# Altium schematic symbol library ADL5545ARKZ-R7.SchLib: 2 symbols
Pins are listed as number, name and electrical type; pins without a type are passive.

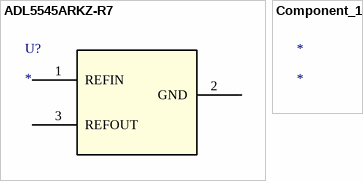
[diagram p0: symbols ADL5545ARKZ-R7 to Component_1]

## ADL5545ARKZ-R7
designator U?
Imported; Value: Value; Type: Type; RefDes: RefDes
footprint RK_3
pins: 1 REFIN, 2 GND, 3 REFOUT

## Component_1
designator *